# EAGLE library part MAX260X (library mp3)
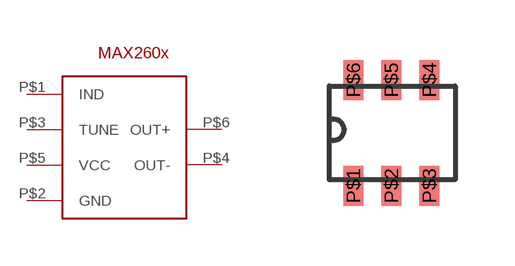
[diagram p1: symbol with the pads of SOT23-6; footprint SOT23-6]

Designator prefix -

## MAX260X  [SOT23-6]
P$1  IND
P$2  GND
P$3  TUNE
P$4  OUT-
P$5  VCC
P$6  OUT+

## Footprint SOT23-6 (pad centres in mm)
smd 0.5 x 1: P$1 0.3,0.5; P$2 1.25,0.5; P$3 2.2,0.5; P$4 2.2,3.15; P$5 1.25,3.15; P$6 0.3,3.15